# Altium footprint library 22 RESISTORS_THD_AX14_8mm_P.PcbLib: 9 footprints
Each footprint in its own frame and in the unit in brackets; x right, y up, seen from the top. Pads: shape width x height; smd on the part's side, far side on the other; paste and mask are expansions set on the pad; w line width, h text height; cw(c..) or ccw(c..) is an arc to the next point about the centre after c.
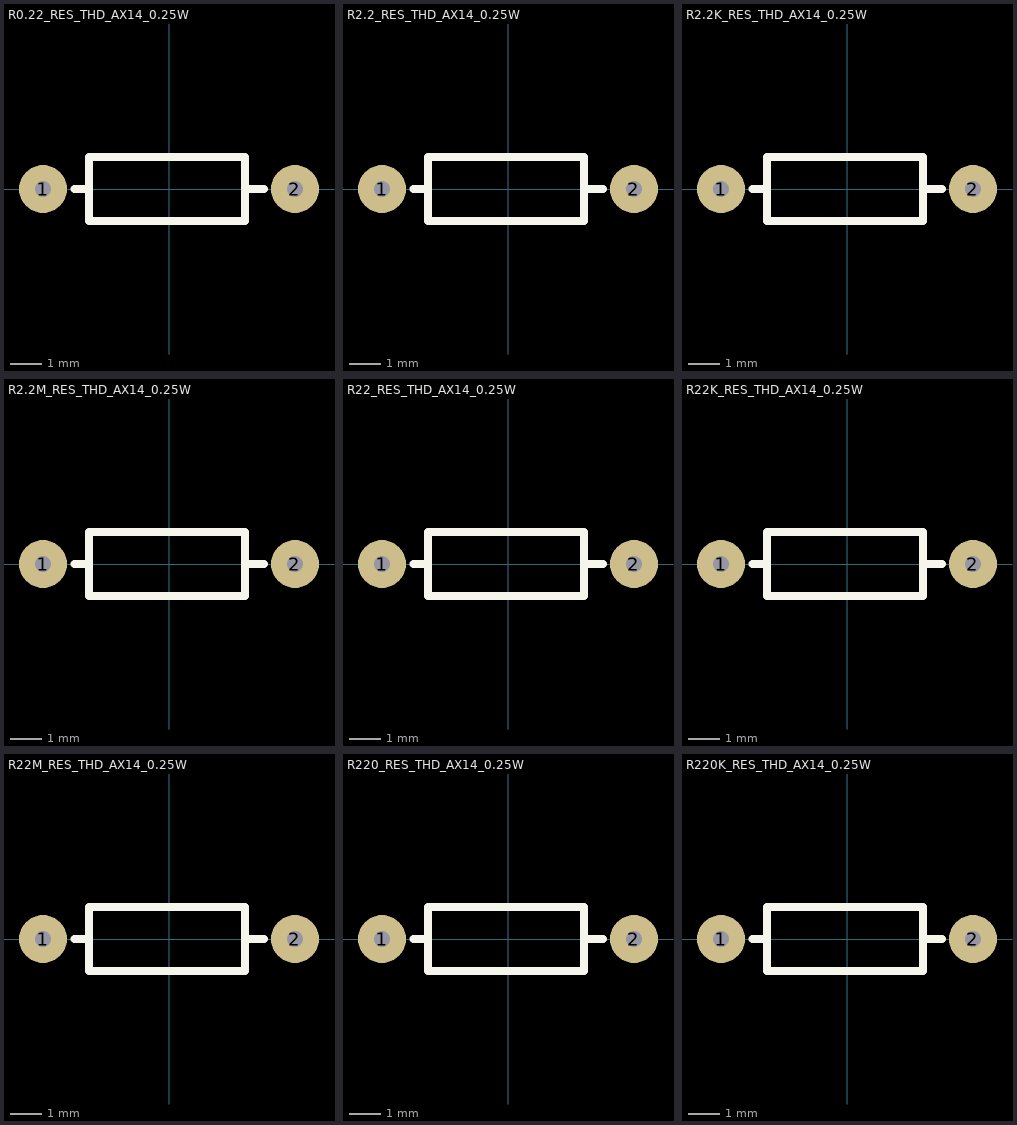
[diagram p0: the footprints below, top view; thin cyan lines are the x and y axes]

## R0.22_RES_THD_AX14_0.25W [mil] "RESISTOR 0.22 Ohm  THD AX14 0.25W Length  8mm"
pads (2):
  round 60 hole 19.68: 1(-157.48,0) 2(157.48,0)
Top Overlay:
  lines w10: -118.28,0 -100.6,0 ; 95,0 118.49,0 ; -100,-40 -100,40 95,40 95,-40 -100,-40
3D body "RES_THD_ASR_ASRM_0.22.STEP": height 96.5, standoff -96.46, extent -167.32,-45.33 167.32,45.33

## R2.2_RES_THD_AX14_0.25W [mil] "RESISTOR 2.2 Ohm  THD AX14 0.25W Length  8mm"
pads (2):
  round 60 hole 19.68: 1(-157.48,0) 2(157.48,0)
Top Overlay:
  lines w10: -118.28,0 -100.6,0 ; 95,0 118.49,0 ; -100,-40 -100,40 95,40 95,-40 -100,-40
3D body "RES_THD_ ASR - ASRM Series 2.2.STEP": height 96.5, standoff -96.46, extent -167.32,-45.33 167.32,45.33

## R2.2K_RES_THD_AX14_0.25W [mil] "RESISTOR 2.2K Ohm  THD AX14 0.25W Length  8mm"
pads (2):
  round 60 hole 19.68: 1(-157.48,0) 2(157.48,0)
Top Overlay:
  lines w10: -118.28,0 -100.6,0 ; 95,0 118.49,0 ; -100,-40 95,-40 95,40 -100,40 -100,-40
3D body "RES_THD_ASR_ASRM_2.2K.STEP": height 96.5, standoff -96.46, extent -167.32,-45.33 167.32,45.33

## R2.2M_RES_THD_AX14_0.25W [mil] "RESISTOR 2.2M Ohm  THD AX14 0.25W Length  8mm"
pads (2):
  round 60 hole 19.68: 1(-157.48,0) 2(157.48,0)
Top Overlay:
  lines w10: -118.28,0 -100.6,0 ; 95,0 118.49,0 ; -100,-40 -100,40 95,40 95,-40 -100,-40
3D body "RES_THD_ASR_ASRM_2.2M.STEP": height 96.5, standoff -96.46, extent -167.32,-45.33 167.32,45.33

## R22_RES_THD_AX14_0.25W [mil] "RESISTOR 22 Ohm  THD AX14 0.25W Length  8mm"
pads (2):
  round 60 hole 19.68: 1(-157.48,0) 2(157.48,0)
Top Overlay:
  lines w10: -118.28,0 -100.6,0 ; 95,0 118.49,0 ; -100,-40 -100,40 95,40 95,-40 -100,-40
3D body "RES_THD_ASR_ASRM_22.STEP": height 96.5, standoff -96.46, extent -167.32,-45.33 167.32,45.33

## R22K_RES_THD_AX14_0.25W [mil] "RESISTOR 22K Ohm  THD AX14 0.25W Length  8mm"
pads (2):
  round 60 hole 19.68: 1(-157.48,0) 2(157.48,0)
Top Overlay:
  lines w10: -118.28,0 -100.6,0 ; 95,0 118.49,0 ; -100,-40 -100,40 95,40 95,-40 -100,-40
3D body "RES_THD_ASR_ASRM_22K.STEP": height 96.5, standoff -96.46, extent -167.32,-45.33 167.32,45.33

## R22M_RES_THD_AX14_0.25W [mil] "RESISTOR 22M Ohm  THD AX14 0.25W Length  8mm"
pads (2):
  round 60 hole 19.68: 1(-157.48,0) 2(157.48,0)
Top Overlay:
  lines w10: -118.28,0 -100.6,0 ; 95,0 118.49,0 ; -100,-40 95,-40 95,40 -100,40 -100,-40
3D body "RES_THD_ASR_ASRM_22M.STEP": height 96.5, standoff -96.46, extent -167.32,-45.33 167.32,45.33

## R220_RES_THD_AX14_0.25W [mil] "RESISTOR 220 Ohm  THD AX14 0.25W Length  8mm"
pads (2):
  round 60 hole 19.68: 1(-157.48,0) 2(157.48,0)
Top Overlay:
  lines w10: -118.28,0 -100.6,0 ; 95,0 118.49,0 ; -100,-40 95,-40 95,40 -100,40 -100,-40
3D body "RES_THD_ASR_ASRM_220.STEP": height 96.5, standoff -96.46, extent -167.32,-45.33 167.32,45.33

## R220K_RES_THD_AX14_0.25W [mil] "RESISTOR 220K Ohm  THD AX14 0.25W Length  8mm"
pads (2):
  round 60 hole 19.68: 1(-157.48,0) 2(157.48,0)
Top Overlay:
  lines w10: -118.28,0 -100.6,0 ; 95,0 118.49,0 ; -100,-40 -100,40 95,40 95,-40 -100,-40
3D body "RES_THD_ASR_ASRM_220K.STEP": height 96.5, standoff -96.46, extent -167.32,-45.33 167.32,45.33